# EAGLE library part XC95108 (library XILINX)
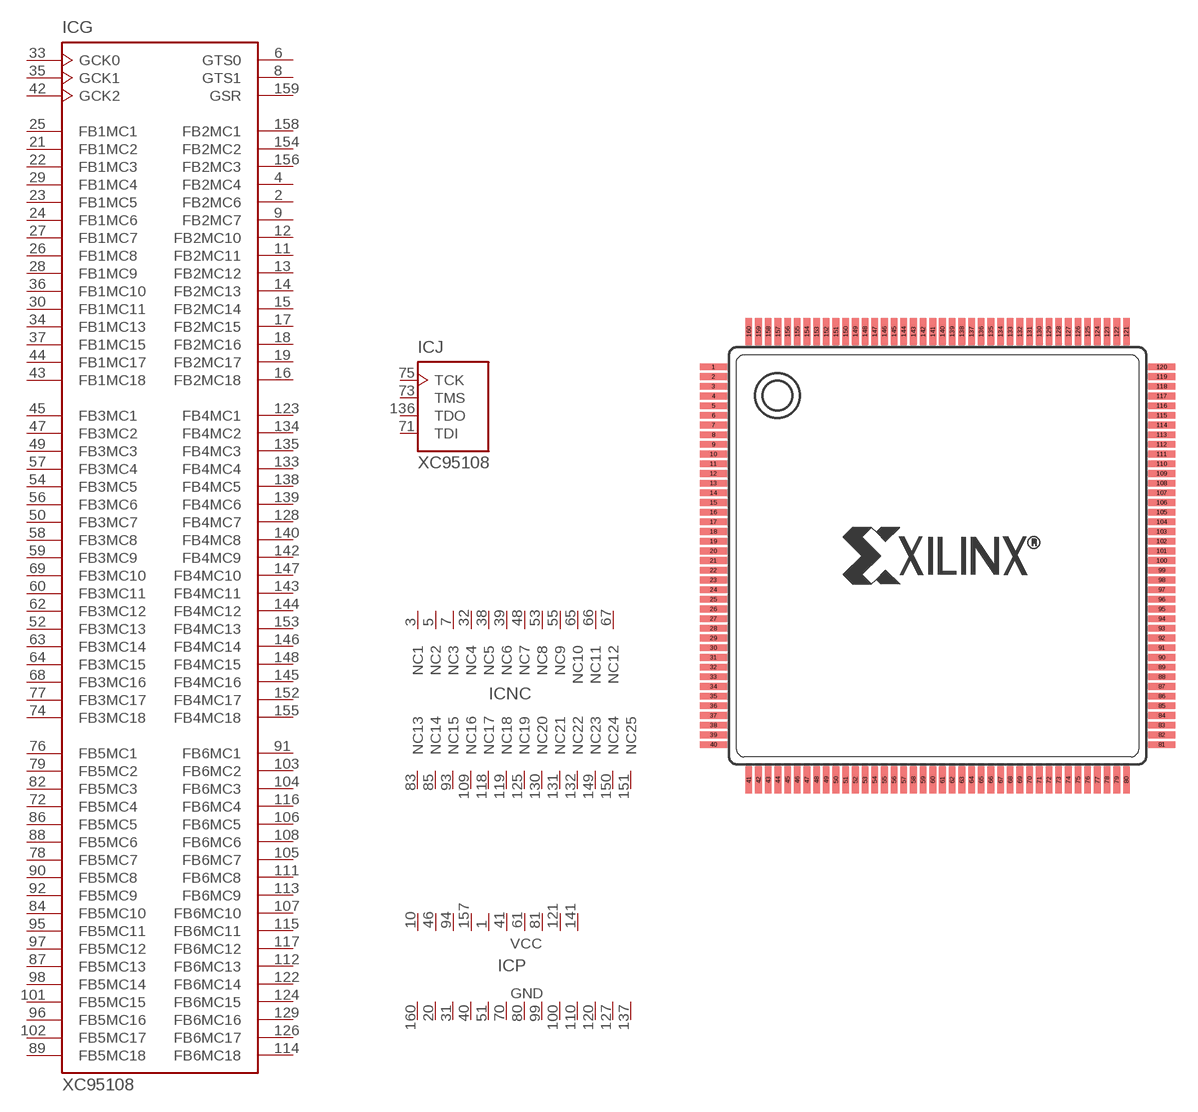
[diagram p2: symbol with the pads of PQ160; footprint PQ160]

Designator prefix IC; gates J=JTAG P=PWR23 NC=NC26 G=XC95108P

## XC95108  [PQ160]
1  P:VCC  pwr
2  G:FB2MC6
3  NC:NC1  nc
4  G:FB2MC4
5  NC:NC2  nc
6  G:GTS0  in
7  NC:NC3  nc
8  G:GTS1  in
9  G:FB2MC7
10  P:VCC  pwr
11  G:FB2MC11
12  G:FB2MC10
13  G:FB2MC12
14  G:FB2MC13
15  G:FB2MC14
16  G:FB2MC18
17  G:FB2MC15  out
18  G:FB2MC16  out
19  G:FB2MC17  out
20  P:GND  pwr
21  G:FB1MC2
22  G:FB1MC3
23  G:FB1MC5
24  G:FB1MC6
25  G:FB1MC1
26  G:FB1MC8
27  G:FB1MC7
28  G:FB1MC9
29  G:FB1MC4
30  G:FB1MC11
31  P:GND  pwr
32  NC:NC4  nc
33  G:GCK0  in
34  G:FB1MC13
35  G:GCK1  in
36  G:FB1MC10
37  G:FB1MC15
38  NC:NC5  nc
39  NC:NC6  nc
40  P:GND  pwr
41  P:VCC  pwr
42  G:GCK2  in
43  G:FB1MC18
44  G:FB1MC17
45  G:FB3MC1
46  P:VCC  pwr
47  G:FB3MC2
48  NC:NC7  nc
49  G:FB3MC3
50  G:FB3MC7
51  P:GND  pwr
52  G:FB3MC13
53  NC:NC8  nc
54  G:FB3MC5
55  NC:NC9  nc
56  G:FB3MC6
57  G:FB3MC4
58  G:FB3MC8
59  G:FB3MC9
60  G:FB3MC11
61  P:VCC  pwr
62  G:FB3MC12
63  G:FB3MC14
64  G:FB3MC15
65  NC:NC10  nc
66  NC:NC11  nc
67  NC:NC12  nc
68  G:FB3MC16
69  G:FB3MC10
70  P:GND  pwr
71  J:TDI  in
72  G:FB5MC4
73  J:TMS  in
74  G:FB3MC18
75  J:TCK  in
76  G:FB5MC1
77  G:FB3MC17
78  G:FB5MC7
79  G:FB5MC2
80  P:GND  pwr
81  P:VCC  pwr
82  G:FB5MC3
83  NC:NC13  nc
84  G:FB5MC10
85  NC:NC14  nc
86  G:FB5MC5
87  G:FB5MC13
88  G:FB5MC6
89  G:FB5MC18
90  G:FB5MC8
91  G:FB6MC1
92  G:FB5MC9
93  NC:NC15  nc
94  P:VCC  pwr
95  G:FB5MC11
96  G:FB5MC16
97  G:FB5MC12
98  G:FB5MC14
99  P:GND  pwr
100  P:GND  pwr
101  G:FB5MC15
102  G:FB5MC17
103  G:FB6MC2
104  G:FB6MC3
105  G:FB6MC7
106  G:FB6MC5
107  G:FB6MC10
108  G:FB6MC6
109  NC:NC16  nc
110  P:GND  pwr
111  G:FB6MC8
112  G:FB6MC13
113  G:FB6MC9
114  G:FB6MC18
115  G:FB6MC11
116  G:FB6MC4
117  G:FB6MC12
118  NC:NC17  nc
119  NC:NC18  nc
120  P:GND  pwr
121  P:VCC  pwr
122  G:FB6MC14
123  G:FB4MC1
124  G:FB6MC15
125  NC:NC19  nc
126  G:FB6MC17
127  P:GND  pwr
128  G:FB4MC7
129  G:FB6MC16
130  NC:NC20  nc
131  NC:NC21  nc
132  NC:NC22  nc
133  G:FB4MC4
134  G:FB4MC2
135  G:FB4MC3
136  J:TDO  out
137  P:GND  pwr
138  G:FB4MC5
139  G:FB4MC6
140  G:FB4MC8
141  P:VCC  pwr
142  G:FB4MC9
143  G:FB4MC11
144  G:FB4MC12
145  G:FB4MC16
146  G:FB4MC14
147  G:FB4MC10
148  G:FB4MC15
149  NC:NC23  nc
150  NC:NC24  nc
151  NC:NC25  nc
152  G:FB4MC17
153  G:FB4MC13
154  G:FB2MC2
155  G:FB4MC18
156  G:FB2MC3
157  P:VCC  pwr
158  G:FB2MC1
159  G:GSR  in
160  P:GND  pwr

## Footprint PQ160 (pad centres in mm)
smd 1.8 x 0.45: 1 -15.05,12.675; 2 -15.05,12.025; 3 -15.05,11.375; 4 -15.05,10.725; 5 -15.05,10.075; 6 -15.05,9.425; 7 -15.05,8.775; 8 -15.05,8.125; 9 -15.05,7.475; 10 -15.05,6.825; 11 -15.05,6.175; 12 -15.05,5.525; 13 -15.05,4.875; 14 -15.05,4.225; 15 -15.05,3.575; 16 -15.05,2.925; 17 -15.05,2.275; 18 -15.05,1.625; 19 -15.05,0.975; 20 -15.05,0.325; 21 -15.05,-0.325; 22 -15.05,-0.975; 23 -15.05,-1.625; 24 -15.05,-2.275; 25 -15.05,-2.925; 26 -15.05,-3.575; 27 -15.05,-4.225; 28 -15.05,-4.875; 29 -15.05,-5.525; 30 -15.05,-6.175; 31 -15.05,-6.825; 32 -15.05,-7.475; 33 -15.05,-8.125; 34 -15.05,-8.775; 35 -15.05,-9.425; 36 -15.05,-10.075; 37 -15.05,-10.725; 38 -15.05,-11.375; 39 -15.05,-12.025; 40 -15.05,-12.675; 81 15.05,-12.675; 82 15.05,-12.025; 83 15.05,-11.375; 84 15.05,-10.725; 85 15.05,-10.075; 86 15.05,-9.425; 87 15.05,-8.775; 88 15.05,-8.125; 89 15.05,-7.475; 90 15.05,-6.825; 91 15.05,-6.175; 92 15.05,-5.525; 93 15.05,-4.875; 94 15.05,-4.225; 95 15.05,-3.575; 96 15.05,-2.925; 97 15.05,-2.275; 98 15.05,-1.625; 99 15.05,-0.975; 100 15.05,-0.325; 101 15.05,0.325; 102 15.05,0.975; 103 15.05,1.625; 104 15.05,2.275; 105 15.05,2.925; 106 15.05,3.575; 107 15.05,4.225; 108 15.05,4.875; 109 15.05,5.525; 110 15.05,6.175; 111 15.05,6.825; 112 15.05,7.475; 113 15.05,8.125; 114 15.05,8.775; 115 15.05,9.425; 116 15.05,10.075; 117 15.05,10.725; 118 15.05,11.375; 119 15.05,12.025; 120 15.05,12.675
smd 0.45 x 1.8: 41 -12.675,-15.05; 42 -12.025,-15.05; 43 -11.375,-15.05; 44 -10.725,-15.05; 45 -10.075,-15.05; 46 -9.425,-15.05; 47 -8.775,-15.05; 48 -8.125,-15.05; 49 -7.475,-15.05; 50 -6.825,-15.05; 51 -6.175,-15.05; 52 -5.525,-15.05; 53 -4.875,-15.05; 54 -4.225,-15.05; 55 -3.575,-15.05; 56 -2.925,-15.05; 57 -2.275,-15.05; 58 -1.625,-15.05; 59 -0.975,-15.05; 60 -0.325,-15.05; 61 0.325,-15.05; 62 0.975,-15.05; 63 1.625,-15.05; 64 2.275,-15.05; 65 2.925,-15.05; 66 3.575,-15.05; 67 4.225,-15.05; 68 4.875,-15.05; 69 5.525,-15.05; 70 6.175,-15.05; 71 6.825,-15.05; 72 7.475,-15.05; 73 8.125,-15.05; 74 8.775,-15.05; 75 9.425,-15.05; 76 10.075,-15.05; 77 10.725,-15.05; 78 11.375,-15.05; 79 12.025,-15.05; 80 12.675,-15.05; 121 12.675,15.05; 122 12.025,15.05; 123 11.375,15.05; 124 10.725,15.05; 125 10.075,15.05; 126 9.425,15.05; 127 8.775,15.05; 128 8.125,15.05; 129 7.475,15.05; 130 6.825,15.05; 131 6.175,15.05; 132 5.525,15.05; 133 4.875,15.05; 134 4.225,15.05; 135 3.575,15.05; 136 2.925,15.05; 137 2.275,15.05; 138 1.625,15.05; 139 0.975,15.05; 140 0.325,15.05; 141 -0.325,15.05; 142 -0.975,15.05; 143 -1.625,15.05; 144 -2.275,15.05; 145 -2.925,15.05; 146 -3.575,15.05; 147 -4.225,15.05; 148 -4.875,15.05; 149 -5.525,15.05; 150 -6.175,15.05; 151 -6.825,15.05; 152 -7.475,15.05; 153 -8.125,15.05; 154 -8.775,15.05; 155 -9.425,15.05; 156 -10.075,15.05; 157 -10.725,15.05; 158 -11.375,15.05; 159 -12.025,15.05; 160 -12.675,15.05